# EAGLE library part ZXGD3003E6 (library di_ic)
Zetex Semi - High-speed non-inverting single MOSFET gate driver, 5A(peak). http://www.diodes.com/datasheets/ZXGD3003E6.pdf Part Number ZXGD3003E6 VIN Max.,V 40 VCCMax.,V 40 Isource @ IIN = 10mA, A 1.6 Isink ,A 1.4 IsinkPKMax.,A 5 IIN Max.,V 1 td(rise),ns 1.8 tr,ns 8.9 td(fall),ns 1.7 tf,ns 8.9
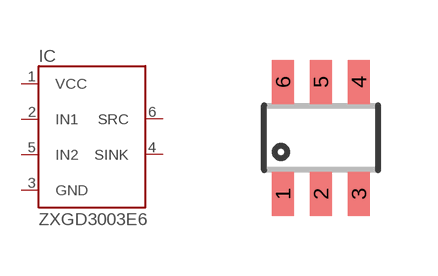
[diagram p39: symbol with the pads of SOT23-6; footprint SOT23-6]

Designator prefix IC

## ZXGD3003E6  [SOT23-6]
1  VCC  pwr
2  IN1  in
3  GND  pwr
4  SINK
5  IN2  in
6  SRC

## Footprint SOT23-6 (pad centres in mm)
Small Outline Transistor
smd 0.55 x 1.1: 1 -0.95,-1.4; 2 0,-1.4; 3 0.95,-1.4; 4 0.95,1.4; 5 0,1.4; 6 -0.95,1.4